# Altium footprint library PCB - LEADED - SOIC - DIODES SOIC-8 AP02002 DMP6110SSS-13.PCBLIB: 1 footprints
Each footprint in its own frame and in the unit in brackets; x right, y up, seen from the top. Pads: shape width x height; smd on the part's side, far side on the other; paste and mask are expansions set on the pad; w line width, h text height; cw(c..) or ccw(c..) is an arc to the next point about the centre after c.
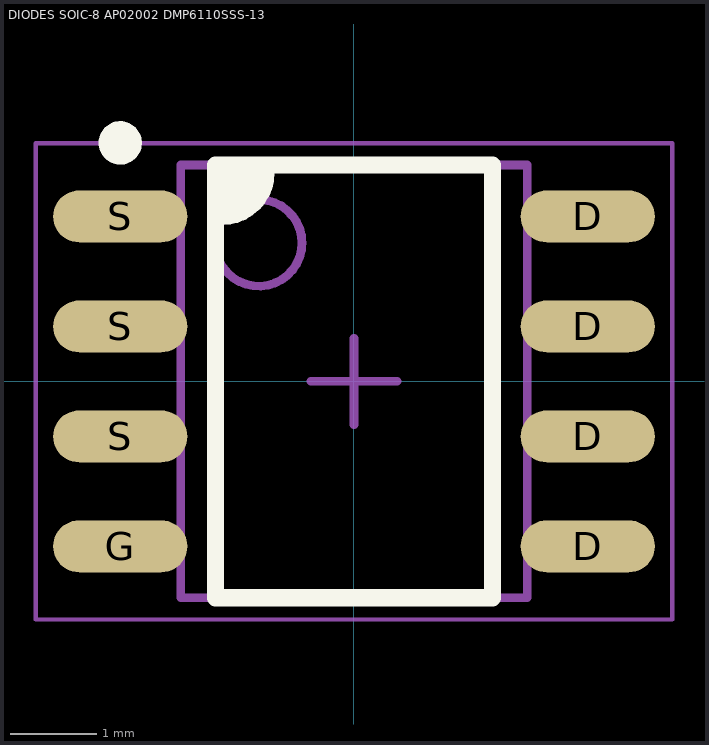
[diagram p0: the footprint, top view; thin cyan lines are the x and y axes]

## DIODES SOIC-8 AP02002 DMP6110SSS-13 [mm] "SOIC, 8-Leads, Body 4.90x3.90mm, Pitch 1.27mm, IPC Medium Density"
height 1.75
pads (8):
  oval 1.55x0.6 smd: D(2.7,-1.905) D(2.7,-0.635) D(2.7,0.635) D(2.7,1.905) G(-2.7,-1.905) S(-2.7,-0.635) S(-2.7,0.635) S(-2.7,1.905)
Top Overlay:
  circle w0.25: c-2.7,2.755 r0.125
  region: -1.6,2.5 -1.598,2.483 -1.585,2.452 -1.561,2.428 -1.53,2.415 -1.513,2.413 -1.016,2.413 -1.016,2.312 -1.093,2.125 -1.236,1.982 -1.423,1.905 -1.524,1.905 -1.524,2.413
  lines w0.2: -1.524,1.905 ccw(c-1.524,2.413) -1.016,2.413 ; -1.6,-2.5 -1.6,2.5 1.6,2.5 1.6,-2.5 -1.6,-2.5
Mechanical 13:
  circle w0.1: c-1.1,1.6 r0.5
  lines w0.1: -2,-2.5 2,-2.5 2,2.5 -2,2.5 -2,-2.5
Mechanical 15:
  lines w0.05: -3.675,-2.75 3.675,-2.75 3.675,2.75 -3.675,2.75 -3.675,-2.75
Mechanical 2 (Mech9):
  lines w0.1: -0.5,0 0.5,0 ; 0,-0.5 0,0.5
3D body "DIODES SOIC-8 AP02002 DMP6110SSS-13.step": height 1.75, standoff 0, extent -3,-2.5 3,2.5